# EAGLE library part JS202011SCQN (library JS202011SCQN)
Sub miniature slide switches Source: Datasheet <https://www.ckswitches.com/media/1422/js.pdf>
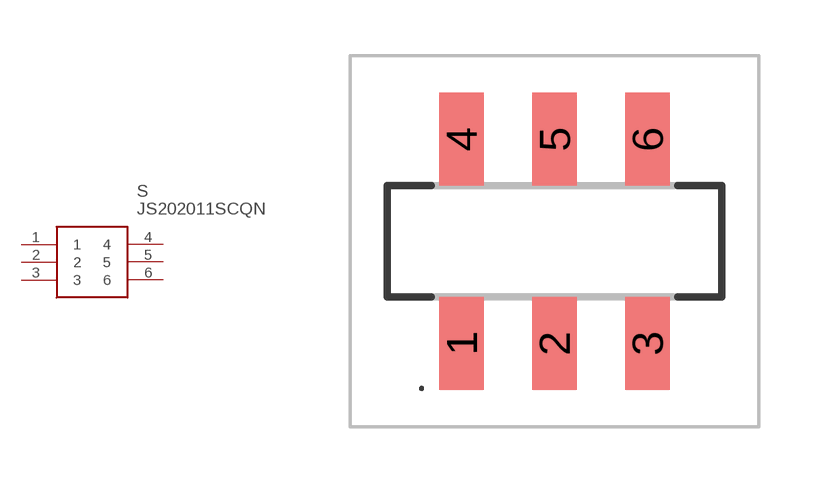
[diagram p0: symbol with the pads of JS202011SCQN; footprint JS202011SCQN]

Designator prefix S

## JS202011SCQN (Description: Sub miniature slide switches; Height: 5.5mm; Manufacturer_Name: C & K COMPONENTS; Manufacturer_Part_Number: JS202011SCQN; Mouser_Part_Number: 611-JS202011SCQN; Mouser_Price-Stock: https://www.mouser.co.uk/ProductDetail/CK/JS202011SCQN?qs=LgMIjt8LuD95JYWxZ7NvZA%3D%3D)  [JS202011SCQN]
1  1
2  2
3  3
4  4
5  5
6  6

## Footprint JS202011SCQN (pad centres in mm)
JS202011SCQN
smd 1.2 x 2.5: 1 -2.5,-2.75; 2 0,-2.75; 3 2.5,-2.75; 4 -2.5,2.75; 5 0,2.75; 6 2.5,2.75